# Altium integrated library Linear Technology Power Management Battery Management.IntLib: 626 symbols (part 33 of 56)
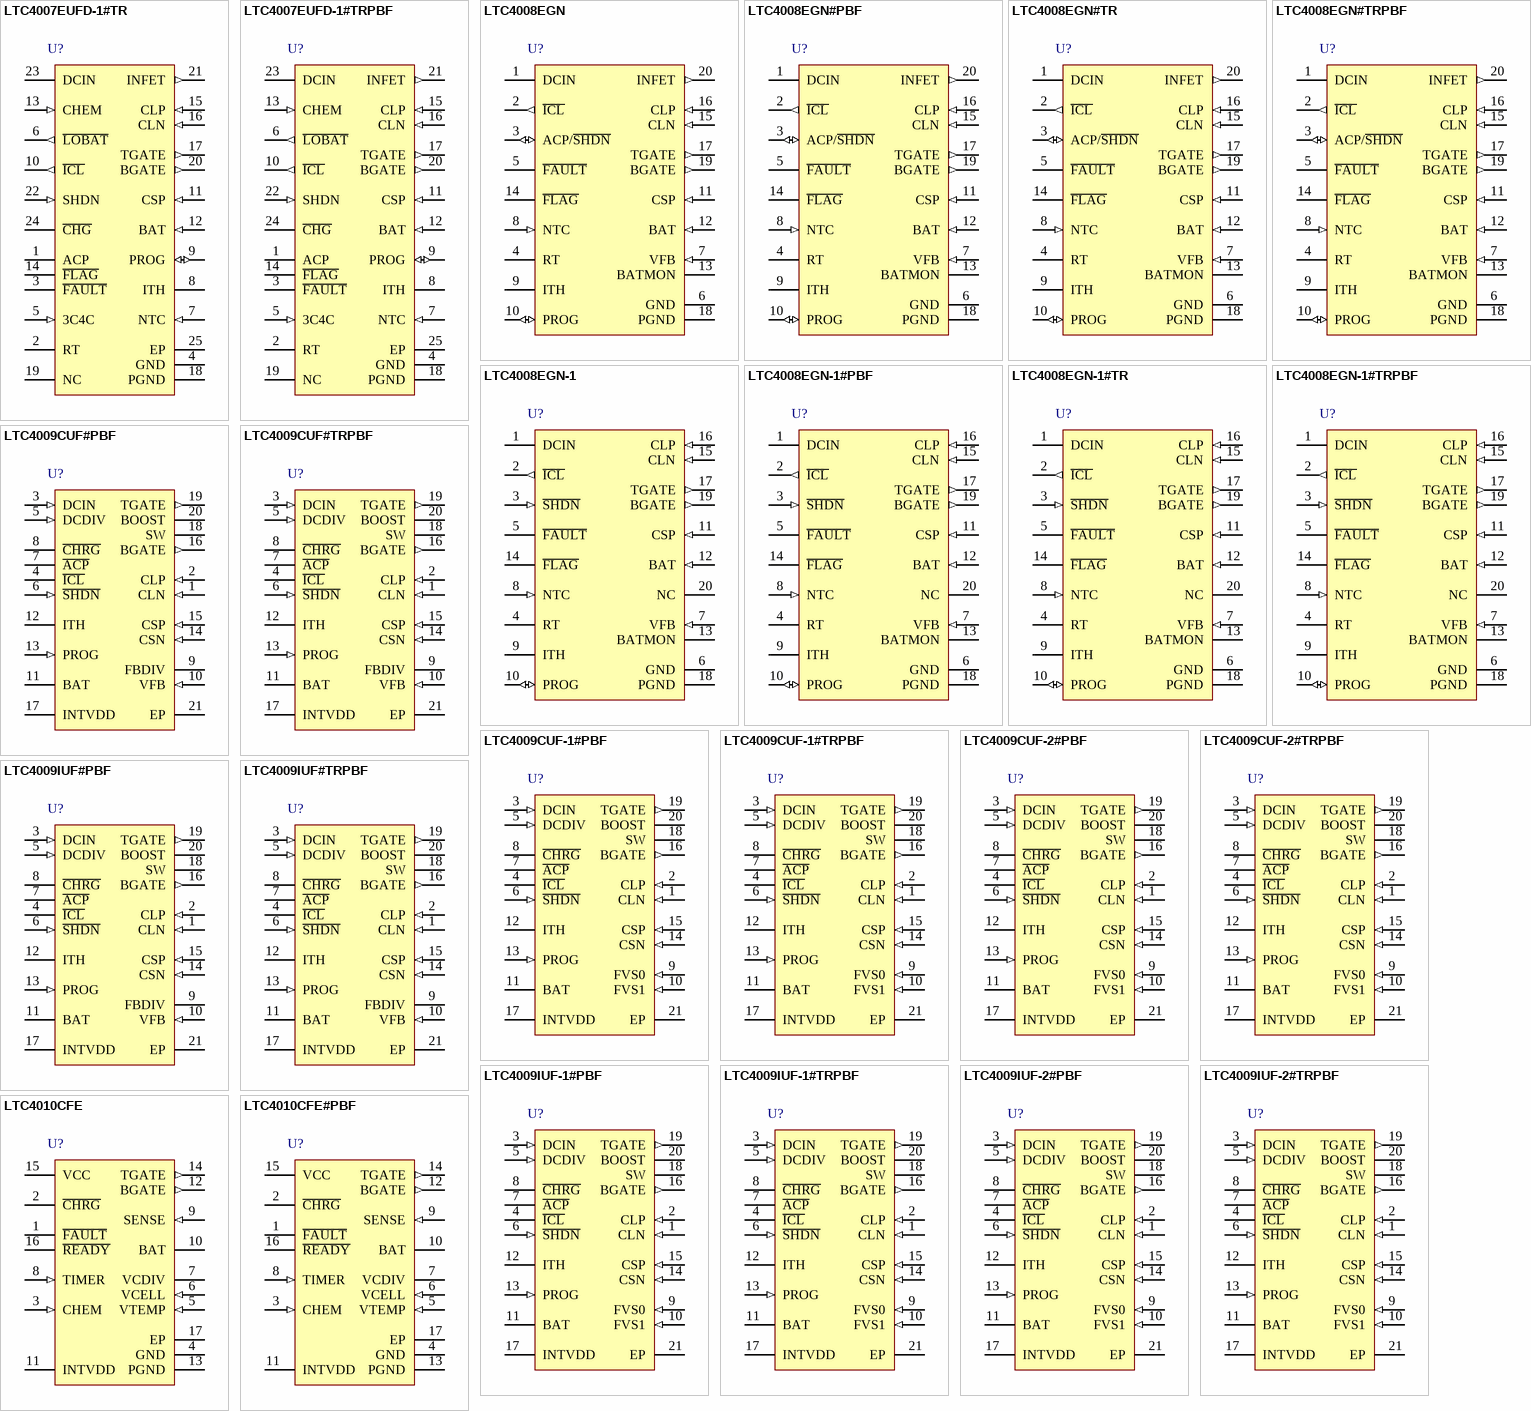
[diagram p54: symbols LTC4007EUFD-1#TR to LTC4010CFE#PBF]

## LTC4008EGN-1#TRPBF
designator U?
4 A, High Efficiency, Multi-Chemistry Battery Charger, 6 to 28 V Vin, 20-pin SOP (GN-20), -40 to 125 degC, Pb-Free, Tape and Reel; Manufacturer: Linear Technology; PartNumber: LTC4008EGN-1#TRPBF; Battery Chemistry: Li-Ion, Li-Polymer, NiCd, NiMH, LiFePO4, Lead Acid; Charge Termination: Microcontroller; Float Voltage: Adj; Max Charge Current(A): 4; Number of Cells: 1 to 6 (Li), 4 to 18 (Ni); Type of Charger: Switching; Vin Max(V): 28; Vin Min(V): 6; DatasheetVersion: Rev. B; PackageVersion: Rev. B, 03/2012; PackageReference: GN-20; PackageDescription: 20-Pin Plastic SSOP, Body 8.649 x 3.899 mm, Pitch 0.635 mm; Supplier 1: Digi-Key; Supplier Part Number 1: LTC4008EGN-1#TRPBF-ND; Packing: Tape and Reel; RoHS: TRUE; Mounting Technology: Surface Mount; ComponentLink1Description: Manufacturer URL; ComponentLink1URL: http://www.linear.com/; ComponentLink2Description: Datasheet; ComponentLink2URL: http://cds.linear.com/docs/en/datasheet/4008fb.pdf; ComponentLink3Description: Package Specification; ComponentLink3URL: http://cds.linear.com/docs/en/packaging/05081641_B_GN20.pdf
footprint LT-GN-20_N (SOP, 20-Leads, Body 8.7x4mm, Pitch 0.635mm, IPC Medium Density)
footprint LT-GN-20_L (SOP, 20-Leads, Body 8.7x4mm, Pitch 0.635mm, IPC High Density)
footprint LT-GN-20_M (SOP, 20-Leads, Body 8.7x4mm, Pitch 0.635mm, IPC Low Density)
pins: 1 DCIN (power) "External DC Power Source Input. Bypass this pin with at least 0.01uF. See Applications Information section.", 2 ~{ICL} (out) "Input Current Limit Indicator. Active low digital output. Internal 10uA pull-up to 3.5V. Pulled low if the charger current is being reduced by the input current limiting function. The pin is capable of sinking at least 100uA.(See Datasheet)", 3 ~{SHDN} (in) "The charger can also be shutdown by pulling this pin below 1V. The pin is capable of sinking at least 100uA. If VLOGIC > 3.3V, add  an external pull-up.", 4 RT "Thermistor Clocking Resistor. Use a 150k resistor as a nominal value. This resistor is always required. If this resistor is not present, the charger will not start.", 5 ~{FAULT} (oc) "Active low open-drain output that indicates that charger operation has suspended due to the thermistor exceeding allowed values. A pull-up resistor is required if this function is used. The pin is capable of sinking at least (See Datasheet)", 6 GND (power) "Ground for Low Power Circuitry.", 7 VFB (in) "Input of Voltage Feedback Error Amplifier, EA, in the Block Diagram.", 8 NTC (in) "A thermistor network is connected from NTC to GND. This pin determines if the battery temperature is safe for charging. The charger and timer are suspended and the F\A\U\L\T\ pin is driven low if the thermistor indicates a (See Datasheet)", 9 ITH "Control Signal of the Inner Loop of the Current Mode PWM. Higher ITH voltage corresponds to higher charging current in normal operation. A 6k resistor in series with a capacitor of at least 0.1uF to GND provides loop (See Datasheet)", 10 PROG (io) "Current Programming/Monitoring Input/ Output. An external resistor to GND programs the peak charging current in conjunction with the current sensing resistor. The voltage at this pin provides a linear indication of charging (See Datasheet)", 11 CSP (in) "Current Ampli?er CA1 Input. The CSP and BAT pins measure the voltage across the sense resistor, RSENSE, to provide the instantaneous current signals required for both peak and average current mode operation.", 12 BAT (in) "Battery Sense Input and the Negative Reference for the Current Sense Resistor.", 13 BATMON (power) "Output Voltage Representing Battery Voltage. Switched off to reduce standby current drain when AC is not present. An external voltage divider from BATMON to VFB sets the charger ?oat voltage. Recommended minimum loa(See Datasheet)", 14 ~{FLAG} (oc) "Active low open-drain output that indicates when charging current has declined to 10% of max programmed current. A pull-up resistor is required if this function is used. The pin is capable of sinking at least 100uA. This (See Datasheet)", 15 CLN (in) "Negative Input to the Input Current Limiting  Amplifier CL1. The threshold is set at 100mV below the voltage at the CLP pin. When used to limit input current,  a filter is needed to ?lter out the switching noise. (See Datasheet)", 16 CLP (in) "This pin serves as a positive reference for the input current limit amplifier, CL1. It also serves as the power supply for the IC.", 17 TGATE (out) "Drives the top external PMOSFET of the battery charger buck converter.", 18 PGND (power) "High Current Ground Return for BGATE Driver.", 19 BGATE (out) "Drives the bottom external N-MOSFET of the battery charger buck converter.", 20 NC "No Connection"

## LTC4009CUF#PBF
designator U?
High Efficiency, Multi-Chemistry Battery Charger, 6 to 28 V Vin, 20-pin QFN (UF-20), 0 to 85 degC, Pb-Free; Manufacturer: Linear Technology; PartNumber: LTC4009CUF#PBF; Battery Chemistry: Li-Ion, Li-Polymer, NiCd, NiMH, LiFePO4, Lead Acid; Charge Termination: Microcontroller; Float Voltage: Adj; Max Charge Current(A): 8; Number of Cells: 1 to 6 (Li), 2 to 18 (Ni); Type of Charger: Switching; Vin Max(V): 28; Vin Min(V): 6; DatasheetVersion: Rev. D; PackageVersion: Rev. A, 10/2010; PackageReference: UF20; PackageDescription: 20-Pin Plastic QFN, Body 4 x 4 mm, Pitch 0.5 mm; Supplier 1: Digi-Key; Supplier Part Number 1: LTC4009CUF#PBF-ND; Supplier 2: Farnell; Supplier Part Number 2: 1647755; Supplier 3: Newark; Supplier Part Number 3: 15N5429; RoHS: TRUE; Mounting Technology: Surface Mount; Code_JEDEC: MO-220; ComponentLink1Description: Manufacturer URL; ComponentLink1URL: http://www.linear.com/; ComponentLink2Description: Datasheet; ComponentLink2URL: http://cds.linear.com/docs/en/datasheet/4009fd.pdf; ComponentLink3Description: Package Specification; ComponentLink3URL: http://cds.linear.com/docs/en/packaging/QFN_20_05-08-1710.pdf
footprint LT-UF-20_N (QFN, 20-Leads, Body 4.1x4.1mm, Pitch 0.5mm, Thermal Pad 2.45x2.45mm, IPC Medium Density)
footprint LT-UF-20_L (QFN, 20-Leads, Body 4.1x4.1mm, Pitch 0.5mm, Thermal Pad 2.45x2.45mm, IPC High Density)
footprint LT-UF-20_M (QFN, 20-Leads, Body 4.1x4.1mm, Pitch 0.5mm, Thermal Pad 2.45x2.45mm, IPC Low Density)
pins: 1 CLN (in) "Adapter Input Current Limit Negative Input. The LTC4009 senses voltage on this pin to determine if the charge current should be reduced to limit total input current. The threshold is set 100mV below the CLP pin. An external (See Datasheet)", 2 CLP (in) "Adapter Input Current Limit Positive Input. The LTC4009 also draws power from this pin, including a small amount for some shutdown functions. Operating voltage range is GND to 28V.", 3 DCIN (in) "DC Power Input. The LTC4009 draws power from this pin when an external DC power source is present. This pin is typically isolated from the CLP pin by a diode and should be bypassed with a capacitance of 0.1uF or more. (See Datasheet)", 4 ~{ICL} (oc) "Active-Low Input Current Limit Indicator Output. This open-drain output pulls to GND when the charge current is reduced because of AC adapter input current limiting. This output should be left floating if not used.", 5 DCDIV (in) "AC Adapter Present Comparator Input. The LTC4009 senses voltage on this pin to determine when an adequate DC power source is present, or if an overvoltage condition exists. An external resistor divider programs these (See Datasheet)", 6 ~{SHDN} (in) "Active-low Shutdown Input. Driving S\H\D\N\ below 300mV unconditionally forces the LTC4009 into the shutdown state. This input has a 50kohm internal pull-down to GND. Operating voltage range is GND to INTVDD.", 7 ~{ACP} (oc) "Active-Low AC Adapter Present Indicator Output. This open-drain output pulls to GND when adequate AC adapter (DC) voltage is present, based on the DCDIV input. This output should be left floating if not used.", 8 ~{CHRG} (hiz) "Active-Low Charge Indicator Output. This open-drain output provides three levels of information about charge status using a strong pull-down, 25uA weak pull-down or high impedance. Refer to the Operation and Applications (See Datasheet)", 9 FBDIV (oc) "Battery Voltage Feedback Resistor Divider Source. The LTC4009 connects this pin to BAT when charging is in progress. FBDIV is an open-drain PFET output to BAT with an operating voltage range of GND to BAT.", 10 VFB (in) "Battery Voltage Feedback Input. An external resistor divider between FBDIV and GND with the center tap connected to VFB programs the charger output voltage. In constant voltage mode, this pin is nominally at 1.2085V. Refer (See Datasheet)", 11 BAT (power) "Battery Pack Connection. The LTC4009 uses the voltage on this pin to control PWM operation when charging. Operating voltage range is GND to CLN.", 12 ITH "PWM Control Voltage and Compensation Node. The LTC4009 develops a voltage on this pin to control cycle-by-cycle peak inductor current. An external R-C network connected to ITH provides PWM loop compensation. Refer to the (See Datasheet)", 13 PROG (in) "Charge Current Programming and Monitoring Pin. An external resistance connected between PROG and GND, along with the current sense and PWM input resistors, programs the maximum charge current. The voltage on this pin can (See Datasheet)", 14 CSN (in) "Charge Current Sense Negative Input. Place an external input resistor (RIN, Figure 1) between this pin and the negative side of the charge current sense resistor. Operating voltage ranges from (BAT - 50mV) to (BAT + 200mV).", 15 CSP (in) "Charge Current Sense Positive Input. Place an external input resistor (RIN, Figure 1) between this pin and the positive side of the charge current sense resistor. Operating voltage ranges from (BAT - 50mV) to (BAT + 200mV).", 16 BGATE (out) "External Synchronous NFET Gate Control Output. This output provides gate drive to an external NMOS power transistor switch used for synchronous rectification to increase efficiency in the step-down DC/DC converter. Operating (See Datasheet)", 17 INTVDD (power) "Internal 5V Regulator Output. This pin provides a means of bypassing the internal 5V regulator used to power the LTC4009 PWM FET drivers. This supply shuts down when the LTC4009 shuts down. Refer to the Application (See Datasheet)", 18 SW "PWM Switch Node. The LTC4009 uses the voltage on this pin as the source reference for its topside NFET (PWM switch) driver. Refer to the Applications Information section for additional PCB layout suggestions related to this (See Datasheet)", 19 TGATE (out) "External NFET Switch Gate Control Output. This output provides gate drive to an external NMOS power transistor switch used in the DC/DC converter. Operating voltage range is GND to (CLN + 5V).", 20 BOOST "TGATE Driver Supply Input. A bootstrap capacitor is returned to this pin from a charge network connected to SW and INTVDD. Refer to the Applications Information section for complete details on circuit topology and component (See Datasheet)", 21 EP (power) "Ground. The package paddle provides a single-point ground for the internal voltage reference and other critical LTC4009 circuits. It must be soldered to a suitable PCB copper ground pad for proper electrical operation and to (See Datasheet)"

## LTC4009CUF#TRPBF
designator U?
High Efficiency, Multi-Chemistry Battery Charger, 6 to 28 V Vin, 20-pin QFN (UF-20), 0 to 85 degC, Pb-Free, Tape and Reel; Manufacturer: Linear Technology; PartNumber: LTC4009CUF#TRPBF; Battery Chemistry: Li-Ion, Li-Polymer, NiCd, NiMH, LiFePO4, Lead Acid; Charge Termination: Microcontroller; Float Voltage: Adj; Max Charge Current(A): 8; Number of Cells: 1 to 6 (Li), 2 to 18 (Ni); Type of Charger: Switching; Vin Max(V): 28; Vin Min(V): 6; DatasheetVersion: Rev. D; PackageVersion: Rev. A, 10/2010; PackageReference: UF20; PackageDescription: 20-Pin Plastic QFN, Body 4 x 4 mm, Pitch 0.5 mm; Supplier 1: Digi-Key; Supplier Part Number 1: LTC4009CUF#TRPBF-ND; Packing: Tape and Reel; RoHS: TRUE; Mounting Technology: Surface Mount; Code_JEDEC: MO-220; ComponentLink1Description: Manufacturer URL; ComponentLink1URL: http://www.linear.com/; ComponentLink2Description: Datasheet; ComponentLink2URL: http://cds.linear.com/docs/en/datasheet/4009fd.pdf; ComponentLink3Description: Package Specification; ComponentLink3URL: http://cds.linear.com/docs/en/packaging/QFN_20_05-08-1710.pdf
footprint LT-UF-20_N (QFN, 20-Leads, Body 4.1x4.1mm, Pitch 0.5mm, Thermal Pad 2.45x2.45mm, IPC Medium Density)
footprint LT-UF-20_L (QFN, 20-Leads, Body 4.1x4.1mm, Pitch 0.5mm, Thermal Pad 2.45x2.45mm, IPC High Density)
footprint LT-UF-20_M (QFN, 20-Leads, Body 4.1x4.1mm, Pitch 0.5mm, Thermal Pad 2.45x2.45mm, IPC Low Density)
pins: 1 CLN (in) "Adapter Input Current Limit Negative Input. The LTC4009 senses voltage on this pin to determine if the charge current should be reduced to limit total input current. The threshold is set 100mV below the CLP pin. An external (See Datasheet)", 2 CLP (in) "Adapter Input Current Limit Positive Input. The LTC4009 also draws power from this pin, including a small amount for some shutdown functions. Operating voltage range is GND to 28V.", 3 DCIN (in) "DC Power Input. The LTC4009 draws power from this pin when an external DC power source is present. This pin is typically isolated from the CLP pin by a diode and should be bypassed with a capacitance of 0.1uF or more. (See Datasheet)", 4 ~{ICL} (oc) "Active-Low Input Current Limit Indicator Output. This open-drain output pulls to GND when the charge current is reduced because of AC adapter input current limiting. This output should be left floating if not used.", 5 DCDIV (in) "AC Adapter Present Comparator Input. The LTC4009 senses voltage on this pin to determine when an adequate DC power source is present, or if an overvoltage condition exists. An external resistor divider programs these (See Datasheet)", 6 ~{SHDN} (in) "Active-low Shutdown Input. Driving S\H\D\N\ below 300mV unconditionally forces the LTC4009 into the shutdown state. This input has a 50kohm internal pull-down to GND. Operating voltage range is GND to INTVDD.", 7 ~{ACP} (oc) "Active-Low AC Adapter Present Indicator Output. This open-drain output pulls to GND when adequate AC adapter (DC) voltage is present, based on the DCDIV input. This output should be left floating if not used.", 8 ~{CHRG} (hiz) "Active-Low Charge Indicator Output. This open-drain output provides three levels of information about charge status using a strong pull-down, 25uA weak pull-down or high impedance. Refer to the Operation and Applications (See Datasheet)", 9 FBDIV (oc) "Battery Voltage Feedback Resistor Divider Source. The LTC4009 connects this pin to BAT when charging is in progress. FBDIV is an open-drain PFET output to BAT with an operating voltage range of GND to BAT.", 10 VFB (in) "Battery Voltage Feedback Input. An external resistor divider between FBDIV and GND with the center tap connected to VFB programs the charger output voltage. In constant voltage mode, this pin is nominally at 1.2085V. Refer (See Datasheet)", 11 BAT (power) "Battery Pack Connection. The LTC4009 uses the voltage on this pin to control PWM operation when charging. Operating voltage range is GND to CLN.", 12 ITH "PWM Control Voltage and Compensation Node. The LTC4009 develops a voltage on this pin to control cycle-by-cycle peak inductor current. An external R-C network connected to ITH provides PWM loop compensation. Refer to the (See Datasheet)", 13 PROG (in) "Charge Current Programming and Monitoring Pin. An external resistance connected between PROG and GND, along with the current sense and PWM input resistors, programs the maximum charge current. The voltage on this pin can (See Datasheet)", 14 CSN (in) "Charge Current Sense Negative Input. Place an external input resistor (RIN, Figure 1) between this pin and the negative side of the charge current sense resistor. Operating voltage ranges from (BAT - 50mV) to (BAT + 200mV).", 15 CSP (in) "Charge Current Sense Positive Input. Place an external input resistor (RIN, Figure 1) between this pin and the positive side of the charge current sense resistor. Operating voltage ranges from (BAT - 50mV) to (BAT + 200mV).", 16 BGATE (out) "External Synchronous NFET Gate Control Output. This output provides gate drive to an external NMOS power transistor switch used for synchronous rectification to increase efficiency in the step-down DC/DC converter. Operating (See Datasheet)", 17 INTVDD (power) "Internal 5V Regulator Output. This pin provides a means of bypassing the internal 5V regulator used to power the LTC4009 PWM FET drivers. This supply shuts down when the LTC4009 shuts down. Refer to the Application (See Datasheet)", 18 SW "PWM Switch Node. The LTC4009 uses the voltage on this pin as the source reference for its topside NFET (PWM switch) driver. Refer to the Applications Information section for additional PCB layout suggestions related to this (See Datasheet)", 19 TGATE (out) "External NFET Switch Gate Control Output. This output provides gate drive to an external NMOS power transistor switch used in the DC/DC converter. Operating voltage range is GND to (CLN + 5V).", 20 BOOST "TGATE Driver Supply Input. A bootstrap capacitor is returned to this pin from a charge network connected to SW and INTVDD. Refer to the Applications Information section for complete details on circuit topology and component (See Datasheet)", 21 EP (power) "Ground. The package paddle provides a single-point ground for the internal voltage reference and other critical LTC4009 circuits. It must be soldered to a suitable PCB copper ground pad for proper electrical operation and to (See Datasheet)"

## LTC4009CUF-1#PBF
designator U?
High Efficiency, Multi-Chemistry Battery Charger, 6 to 28 V Vin, 20-pin QFN (UF-20), 0 to 85 degC, Pb-Free; Manufacturer: Linear Technology; PartNumber: LTC4009CUF-1#PBF; Battery Chemistry: Li-Ion, Li-Polymer; Charge Termination: Microcontroller; Float Voltage: 4.1 V; Max Charge Current(A): 8; Number of Cells: 1 to 4 (Li); Type of Charger: Switching; Vin Max(V): 28; Vin Min(V): 6; DatasheetVersion: Rev. D; PackageVersion: Rev. A, 10/2010; PackageReference: UF20; PackageDescription: 20-Pin Plastic QFN, Body 4 x 4 mm, Pitch 0.5 mm; Supplier 1: Digi-Key; Supplier Part Number 1: LTC4009CUF-1#PBF-ND; Supplier 2: Newark; Supplier Part Number 2: 19P0710; RoHS: TRUE; Mounting Technology: Surface Mount; Code_JEDEC: MO-220; ComponentLink1Description: Manufacturer URL; ComponentLink1URL: http://www.linear.com/; ComponentLink2Description: Datasheet; ComponentLink2URL: http://cds.linear.com/docs/en/datasheet/4009fd.pdf; ComponentLink3Description: Package Specification; ComponentLink3URL: http://cds.linear.com/docs/en/packaging/QFN_20_05-08-1710.pdf
footprint LT-UF-20_N (QFN, 20-Leads, Body 4.1x4.1mm, Pitch 0.5mm, Thermal Pad 2.45x2.45mm, IPC Medium Density)
footprint LT-UF-20_L (QFN, 20-Leads, Body 4.1x4.1mm, Pitch 0.5mm, Thermal Pad 2.45x2.45mm, IPC High Density)
footprint LT-UF-20_M (QFN, 20-Leads, Body 4.1x4.1mm, Pitch 0.5mm, Thermal Pad 2.45x2.45mm, IPC Low Density)
pins: 1 CLN (in) "Adapter Input Current Limit Negative Input. The LTC4009 senses voltage on this pin to determine if the charge current should be reduced to limit total input current. The threshold is set 100mV below the CLP pin. An external (See Datasheet)", 2 CLP (in) "Adapter Input Current Limit Positive Input. The LTC4009 also draws power from this pin, including a small amount for some shutdown functions. Operating voltage range is GND to 28V.", 3 DCIN (in) "DC Power Input. The LTC4009 draws power from this pin when an external DC power source is present. This pin is typically isolated from the CLP pin by a diode and should be bypassed with a capacitance of 0.1uF or more. (See Datasheet)", 4 ~{ICL} (oc) "Active-Low Input Current Limit Indicator Output. This open-drain output pulls to GND when the charge current is reduced because of AC adapter input current limiting. This output should be left floating if not used.", 5 DCDIV (in) "AC Adapter Present Comparator Input. The LTC4009 senses voltage on this pin to determine when an adequate DC power source is present, or if an overvoltage condition exists. An external resistor divider programs these (See Datasheet)", 6 ~{SHDN} (in) "Active-low Shutdown Input. Driving S\H\D\N\ below 300mV unconditionally forces the LTC4009 into the shutdown state. This input has a 50kohm internal pull-down to GND. Operating voltage range is GND to INTVDD.", 7 ~{ACP} (oc) "Active-Low AC Adapter Present Indicator Output. This open-drain output pulls to GND when adequate AC adapter (DC) voltage is present, based on the DCDIV input. This output should be left floating if not used.", 8 ~{CHRG} (hiz) "Active-Low Charge Indicator Output. This open-drain output provides three levels of information about charge status using a strong pull-down, 25uA weak pull-down or high impedance. Refer to the Operation and Applications (See Datasheet)", 9 FVS0 (in) "Battery Voltage Select Input (LSB). This pin is one of two pins used on the LTC4009-1 or LTC4009-2 to select one of four preset battery voltages. Selection is done by connecting to either GND or INTVDD. Operating voltage (See Datasheet)", 10 FVS1 (in) "Battery Voltage Select Input (MSB). This pin is one of two pins used on the LTC4009-1 or LTC4009-2 to select one of four preset battery voltages. Selection is done by connecting to either GND or INTVDD. Operating voltage (See Datasheet)", 11 BAT (power) "Battery Pack Connection. The LTC4009 uses the voltage on this pin to control PWM operation when charging. Operating voltage range is GND to CLN.", 12 ITH "PWM Control Voltage and Compensation Node. The LTC4009 develops a voltage on this pin to control cycle-by-cycle peak inductor current. An external R-C network connected to ITH provides PWM loop compensation. Refer to the (See Datasheet)", 13 PROG (in) "Charge Current Programming and Monitoring Pin. An external resistance connected between PROG and GND, along with the current sense and PWM input resistors, programs the maximum charge current. The voltage on this pin can (See Datasheet)", 14 CSN (in) "Charge Current Sense Negative Input. Place an external input resistor (RIN, Figure 1) between this pin and the negative side of the charge current sense resistor. Operating voltage ranges from (BAT - 50mV) to (BAT + 200mV).", 15 CSP (in) "Charge Current Sense Positive Input. Place an external input resistor (RIN, Figure 1) between this pin and the positive side of the charge current sense resistor. Operating voltage ranges from (BAT - 50mV) to (BAT + 200mV).", 16 BGATE (out) "External Synchronous NFET Gate Control Output. This output provides gate drive to an external NMOS power transistor switch used for synchronous rectification to increase efficiency in the step-down DC/DC converter. Operating (See Datasheet)", 17 INTVDD (power) "Internal 5V Regulator Output. This pin provides a means of bypassing the internal 5V regulator used to power the LTC4009 PWM FET drivers. This supply shuts down when the LTC4009 shuts down. Refer to the Application (See Datasheet)", 18 SW "PWM Switch Node. The LTC4009 uses the voltage on this pin as the source reference for its topside NFET (PWM switch) driver. Refer to the Applications Information section for additional PCB layout suggestions related to this (See Datasheet)", 19 TGATE (out) "External NFET Switch Gate Control Output. This output provides gate drive to an external NMOS power transistor switch used in the DC/DC converter. Operating voltage range is GND to (CLN + 5V).", 20 BOOST "TGATE Driver Supply Input. A bootstrap capacitor is returned to this pin from a charge network connected to SW and INTVDD. Refer to the Applications Information section for complete details on circuit topology and component (See Datasheet)", 21 EP (power) "Ground. The package paddle provides a single-point ground for the internal voltage reference and other critical LTC4009 circuits. It must be soldered to a suitable PCB copper ground pad for proper electrical operation and to (See Datasheet)"

## LTC4009CUF-1#TRPBF
designator U?
High Efficiency, Multi-Chemistry Battery Charger, 6 to 28 V Vin, 20-pin QFN (UF-20), 0 to 85 degC, Pb-Free, Tape and Reel; Manufacturer: Linear Technology; PartNumber: LTC4009CUF-1#TRPBF; Battery Chemistry: Li-Ion, Li-Polymer; Charge Termination: Microcontroller; Float Voltage: 4.1 V; Max Charge Current(A): 8; Number of Cells: 1 to 4 (Li); Type of Charger: Switching; Vin Max(V): 28; Vin Min(V): 6; DatasheetVersion: Rev. D; PackageVersion: Rev. A, 10/2010; PackageReference: UF20; PackageDescription: 20-Pin Plastic QFN, Body 4 x 4 mm, Pitch 0.5 mm; Supplier 1: Digi-Key; Supplier Part Number 1: LTC4009CUF-1#TRPBF-ND; Packing: Tape and Reel; RoHS: TRUE; Mounting Technology: Surface Mount; Code_JEDEC: MO-220; ComponentLink1Description: Manufacturer URL; ComponentLink1URL: http://www.linear.com/; ComponentLink2Description: Datasheet; ComponentLink2URL: http://cds.linear.com/docs/en/datasheet/4009fd.pdf; ComponentLink3Description: Package Specification; ComponentLink3URL: http://cds.linear.com/docs/en/packaging/QFN_20_05-08-1710.pdf
footprint LT-UF-20_N (QFN, 20-Leads, Body 4.1x4.1mm, Pitch 0.5mm, Thermal Pad 2.45x2.45mm, IPC Medium Density)
footprint LT-UF-20_L (QFN, 20-Leads, Body 4.1x4.1mm, Pitch 0.5mm, Thermal Pad 2.45x2.45mm, IPC High Density)
footprint LT-UF-20_M (QFN, 20-Leads, Body 4.1x4.1mm, Pitch 0.5mm, Thermal Pad 2.45x2.45mm, IPC Low Density)
pins: 1 CLN (in) "Adapter Input Current Limit Negative Input. The LTC4009 senses voltage on this pin to determine if the charge current should be reduced to limit total input current. The threshold is set 100mV below the CLP pin. An external (See Datasheet)", 2 CLP (in) "Adapter Input Current Limit Positive Input. The LTC4009 also draws power from this pin, including a small amount for some shutdown functions. Operating voltage range is GND to 28V.", 3 DCIN (in) "DC Power Input. The LTC4009 draws power from this pin when an external DC power source is present. This pin is typically isolated from the CLP pin by a diode and should be bypassed with a capacitance of 0.1uF or more. (See Datasheet)", 4 ~{ICL} (oc) "Active-Low Input Current Limit Indicator Output. This open-drain output pulls to GND when the charge current is reduced because of AC adapter input current limiting. This output should be left floating if not used.", 5 DCDIV (in) "AC Adapter Present Comparator Input. The LTC4009 senses voltage on this pin to determine when an adequate DC power source is present, or if an overvoltage condition exists. An external resistor divider programs these (See Datasheet)", 6 ~{SHDN} (in) "Active-low Shutdown Input. Driving S\H\D\N\ below 300mV unconditionally forces the LTC4009 into the shutdown state. This input has a 50kohm internal pull-down to GND. Operating voltage range is GND to INTVDD.", 7 ~{ACP} (oc) "Active-Low AC Adapter Present Indicator Output. This open-drain output pulls to GND when adequate AC adapter (DC) voltage is present, based on the DCDIV input. This output should be left floating if not used.", 8 ~{CHRG} (hiz) "Active-Low Charge Indicator Output. This open-drain output provides three levels of information about charge status using a strong pull-down, 25uA weak pull-down or high impedance. Refer to the Operation and Applications (See Datasheet)", 9 FVS0 (in) "Battery Voltage Select Input (LSB). This pin is one of two pins used on the LTC4009-1 or LTC4009-2 to select one of four preset battery voltages. Selection is done by connecting to either GND or INTVDD. Operating voltage (See Datasheet)", 10 FVS1 (in) "Battery Voltage Select Input (MSB). This pin is one of two pins used on the LTC4009-1 or LTC4009-2 to select one of four preset battery voltages. Selection is done by connecting to either GND or INTVDD. Operating voltage (See Datasheet)", 11 BAT (power) "Battery Pack Connection. The LTC4009 uses the voltage on this pin to control PWM operation when charging. Operating voltage range is GND to CLN.", 12 ITH "PWM Control Voltage and Compensation Node. The LTC4009 develops a voltage on this pin to control cycle-by-cycle peak inductor current. An external R-C network connected to ITH provides PWM loop compensation. Refer to the (See Datasheet)", 13 PROG (in) "Charge Current Programming and Monitoring Pin. An external resistance connected between PROG and GND, along with the current sense and PWM input resistors, programs the maximum charge current. The voltage on this pin can (See Datasheet)", 14 CSN (in) "Charge Current Sense Negative Input. Place an external input resistor (RIN, Figure 1) between this pin and the negative side of the charge current sense resistor. Operating voltage ranges from (BAT - 50mV) to (BAT + 200mV).", 15 CSP (in) "Charge Current Sense Positive Input. Place an external input resistor (RIN, Figure 1) between this pin and the positive side of the charge current sense resistor. Operating voltage ranges from (BAT - 50mV) to (BAT + 200mV).", 16 BGATE (out) "External Synchronous NFET Gate Control Output. This output provides gate drive to an external NMOS power transistor switch used for synchronous rectification to increase efficiency in the step-down DC/DC converter. Operating (See Datasheet)", 17 INTVDD (power) "Internal 5V Regulator Output. This pin provides a means of bypassing the internal 5V regulator used to power the LTC4009 PWM FET drivers. This supply shuts down when the LTC4009 shuts down. Refer to the Application (See Datasheet)", 18 SW "PWM Switch Node. The LTC4009 uses the voltage on this pin as the source reference for its topside NFET (PWM switch) driver. Refer to the Applications Information section for additional PCB layout suggestions related to this (See Datasheet)", 19 TGATE (out) "External NFET Switch Gate Control Output. This output provides gate drive to an external NMOS power transistor switch used in the DC/DC converter. Operating voltage range is GND to (CLN + 5V).", 20 BOOST "TGATE Driver Supply Input. A bootstrap capacitor is returned to this pin from a charge network connected to SW and INTVDD. Refer to the Applications Information section for complete details on circuit topology and component (See Datasheet)", 21 EP (power) "Ground. The package paddle provides a single-point ground for the internal voltage reference and other critical LTC4009 circuits. It must be soldered to a suitable PCB copper ground pad for proper electrical operation and to (See Datasheet)"

## LTC4009CUF-2#PBF
designator U?
High Efficiency, Multi-Chemistry Battery Charger, 6 to 28 V Vin, 20-pin QFN (UF-20), 0 to 85 degC, Pb-Free; Manufacturer: Linear Technology; PartNumber: LTC4009CUF-2#PBF; Battery Chemistry: Li-Ion, Li-Polymer; Charge Termination: Microcontroller; Float Voltage: 4.2 V; Max Charge Current(A): 8; Number of Cells: 1 to 4 (Li); Type of Charger: Switching; Vin Max(V): 28; Vin Min(V): 6; DatasheetVersion: Rev. D; PackageVersion: Rev. A, 10/2010; PackageReference: UF20; PackageDescription: 20-Pin Plastic QFN, Body 4 x 4 mm, Pitch 0.5 mm; Supplier 1: Digi-Key; Supplier Part Number 1: LTC4009CUF-2#PBF-ND; Supplier 2: Newark; Supplier Part Number 2: 19P0711; RoHS: TRUE; Mounting Technology: Surface Mount; Code_JEDEC: MO-220; ComponentLink1Description: Manufacturer URL; ComponentLink1URL: http://www.linear.com/; ComponentLink2Description: Datasheet; ComponentLink2URL: http://cds.linear.com/docs/en/datasheet/4009fd.pdf; ComponentLink3Description: Package Specification; ComponentLink3URL: http://cds.linear.com/docs/en/packaging/QFN_20_05-08-1710.pdf
footprint LT-UF-20_N (QFN, 20-Leads, Body 4.1x4.1mm, Pitch 0.5mm, Thermal Pad 2.45x2.45mm, IPC Medium Density)
footprint LT-UF-20_L (QFN, 20-Leads, Body 4.1x4.1mm, Pitch 0.5mm, Thermal Pad 2.45x2.45mm, IPC High Density)
footprint LT-UF-20_M (QFN, 20-Leads, Body 4.1x4.1mm, Pitch 0.5mm, Thermal Pad 2.45x2.45mm, IPC Low Density)
pins: 1 CLN (in) "Adapter Input Current Limit Negative Input. The LTC4009 senses voltage on this pin to determine if the charge current should be reduced to limit total input current. The threshold is set 100mV below the CLP pin. An external (See Datasheet)", 2 CLP (in) "Adapter Input Current Limit Positive Input. The LTC4009 also draws power from this pin, including a small amount for some shutdown functions. Operating voltage range is GND to 28V.", 3 DCIN (in) "DC Power Input. The LTC4009 draws power from this pin when an external DC power source is present. This pin is typically isolated from the CLP pin by a diode and should be bypassed with a capacitance of 0.1uF or more. (See Datasheet)", 4 ~{ICL} (oc) "Active-Low Input Current Limit Indicator Output. This open-drain output pulls to GND when the charge current is reduced because of AC adapter input current limiting. This output should be left floating if not used.", 5 DCDIV (in) "AC Adapter Present Comparator Input. The LTC4009 senses voltage on this pin to determine when an adequate DC power source is present, or if an overvoltage condition exists. An external resistor divider programs these (See Datasheet)", 6 ~{SHDN} (in) "Active-low Shutdown Input. Driving S\H\D\N\ below 300mV unconditionally forces the LTC4009 into the shutdown state. This input has a 50kohm internal pull-down to GND. Operating voltage range is GND to INTVDD.", 7 ~{ACP} (oc) "Active-Low AC Adapter Present Indicator Output. This open-drain output pulls to GND when adequate AC adapter (DC) voltage is present, based on the DCDIV input. This output should be left floating if not used.", 8 ~{CHRG} (hiz) "Active-Low Charge Indicator Output. This open-drain output provides three levels of information about charge status using a strong pull-down, 25uA weak pull-down or high impedance. Refer to the Operation and Applications (See Datasheet)", 9 FVS0 (in) "Battery Voltage Select Input (LSB). This pin is one of two pins used on the LTC4009-1 or LTC4009-2 to select one of four preset battery voltages. Selection is done by connecting to either GND or INTVDD. Operating voltage (See Datasheet)", 10 FVS1 (in) "Battery Voltage Select Input (MSB). This pin is one of two pins used on the LTC4009-1 or LTC4009-2 to select one of four preset battery voltages. Selection is done by connecting to either GND or INTVDD. Operating voltage (See Datasheet)", 11 BAT (power) "Battery Pack Connection. The LTC4009 uses the voltage on this pin to control PWM operation when charging. Operating voltage range is GND to CLN.", 12 ITH "PWM Control Voltage and Compensation Node. The LTC4009 develops a voltage on this pin to control cycle-by-cycle peak inductor current. An external R-C network connected to ITH provides PWM loop compensation. Refer to the (See Datasheet)", 13 PROG (in) "Charge Current Programming and Monitoring Pin. An external resistance connected between PROG and GND, along with the current sense and PWM input resistors, programs the maximum charge current. The voltage on this pin can (See Datasheet)", 14 CSN (in) "Charge Current Sense Negative Input. Place an external input resistor (RIN, Figure 1) between this pin and the negative side of the charge current sense resistor. Operating voltage ranges from (BAT - 50mV) to (BAT + 200mV).", 15 CSP (in) "Charge Current Sense Positive Input. Place an external input resistor (RIN, Figure 1) between this pin and the positive side of the charge current sense resistor. Operating voltage ranges from (BAT - 50mV) to (BAT + 200mV).", 16 BGATE (out) "External Synchronous NFET Gate Control Output. This output provides gate drive to an external NMOS power transistor switch used for synchronous rectification to increase efficiency in the step-down DC/DC converter. Operating (See Datasheet)", 17 INTVDD (power) "Internal 5V Regulator Output. This pin provides a means of bypassing the internal 5V regulator used to power the LTC4009 PWM FET drivers. This supply shuts down when the LTC4009 shuts down. Refer to the Application (See Datasheet)", 18 SW "PWM Switch Node. The LTC4009 uses the voltage on this pin as the source reference for its topside NFET (PWM switch) driver. Refer to the Applications Information section for additional PCB layout suggestions related to this (See Datasheet)", 19 TGATE (out) "External NFET Switch Gate Control Output. This output provides gate drive to an external NMOS power transistor switch used in the DC/DC converter. Operating voltage range is GND to (CLN + 5V).", 20 BOOST "TGATE Driver Supply Input. A bootstrap capacitor is returned to this pin from a charge network connected to SW and INTVDD. Refer to the Applications Information section for complete details on circuit topology and component (See Datasheet)", 21 EP (power) "Ground. The package paddle provides a single-point ground for the internal voltage reference and other critical LTC4009 circuits. It must be soldered to a suitable PCB copper ground pad for proper electrical operation and to (See Datasheet)"

## LTC4009CUF-2#TRPBF
designator U?
High Efficiency, Multi-Chemistry Battery Charger, 6 to 28 V Vin, 20-pin QFN (UF-20), 0 to 85 degC, Pb-Free, Tape and Reel; Manufacturer: Linear Technology; PartNumber: LTC4009CUF-2#TRPBF; Battery Chemistry: Li-Ion, Li-Polymer; Charge Termination: Microcontroller; Float Voltage: 4.2 V; Max Charge Current(A): 8; Number of Cells: 1 to 4 (Li); Type of Charger: Switching; Vin Max(V): 28; Vin Min(V): 6; DatasheetVersion: Rev. D; PackageVersion: Rev. A, 10/2010; PackageReference: UF20; PackageDescription: 20-Pin Plastic QFN, Body 4 x 4 mm, Pitch 0.5 mm; Supplier 1: Digi-Key; Supplier Part Number 1: LTC4009CUF-2#TRPBF-ND; Supplier 2: Newark; Supplier Part Number 2: 31P7604; Packing: Tape and Reel; RoHS: TRUE; Mounting Technology: Surface Mount; Code_JEDEC: MO-220; ComponentLink1Description: Manufacturer URL; ComponentLink1URL: http://www.linear.com/; ComponentLink2Description: Datasheet; ComponentLink2URL: http://cds.linear.com/docs/en/datasheet/4009fd.pdf; ComponentLink3Description: Package Specification; ComponentLink3URL: http://cds.linear.com/docs/en/packaging/QFN_20_05-08-1710.pdf
footprint LT-UF-20_N (QFN, 20-Leads, Body 4.1x4.1mm, Pitch 0.5mm, Thermal Pad 2.45x2.45mm, IPC Medium Density)
footprint LT-UF-20_L (QFN, 20-Leads, Body 4.1x4.1mm, Pitch 0.5mm, Thermal Pad 2.45x2.45mm, IPC High Density)
footprint LT-UF-20_M (QFN, 20-Leads, Body 4.1x4.1mm, Pitch 0.5mm, Thermal Pad 2.45x2.45mm, IPC Low Density)
pins: 1 CLN (in) "Adapter Input Current Limit Negative Input. The LTC4009 senses voltage on this pin to determine if the charge current should be reduced to limit total input current. The threshold is set 100mV below the CLP pin. An external (See Datasheet)", 2 CLP (in) "Adapter Input Current Limit Positive Input. The LTC4009 also draws power from this pin, including a small amount for some shutdown functions. Operating voltage range is GND to 28V.", 3 DCIN (in) "DC Power Input. The LTC4009 draws power from this pin when an external DC power source is present. This pin is typically isolated from the CLP pin by a diode and should be bypassed with a capacitance of 0.1uF or more. (See Datasheet)", 4 ~{ICL} (oc) "Active-Low Input Current Limit Indicator Output. This open-drain output pulls to GND when the charge current is reduced because of AC adapter input current limiting. This output should be left floating if not used.", 5 DCDIV (in) "AC Adapter Present Comparator Input. The LTC4009 senses voltage on this pin to determine when an adequate DC power source is present, or if an overvoltage condition exists. An external resistor divider programs these (See Datasheet)", 6 ~{SHDN} (in) "Active-low Shutdown Input. Driving S\H\D\N\ below 300mV unconditionally forces the LTC4009 into the shutdown state. This input has a 50kohm internal pull-down to GND. Operating voltage range is GND to INTVDD.", 7 ~{ACP} (oc) "Active-Low AC Adapter Present Indicator Output. This open-drain output pulls to GND when adequate AC adapter (DC) voltage is present, based on the DCDIV input. This output should be left floating if not used.", 8 ~{CHRG} (hiz) "Active-Low Charge Indicator Output. This open-drain output provides three levels of information about charge status using a strong pull-down, 25uA weak pull-down or high impedance. Refer to the Operation and Applications (See Datasheet)", 9 FVS0 (in) "Battery Voltage Select Input (LSB). This pin is one of two pins used on the LTC4009-1 or LTC4009-2 to select one of four preset battery voltages. Selection is done by connecting to either GND or INTVDD. Operating voltage (See Datasheet)", 10 FVS1 (in) "Battery Voltage Select Input (MSB). This pin is one of two pins used on the LTC4009-1 or LTC4009-2 to select one of four preset battery voltages. Selection is done by connecting to either GND or INTVDD. Operating voltage (See Datasheet)", 11 BAT (power) "Battery Pack Connection. The LTC4009 uses the voltage on this pin to control PWM operation when charging. Operating voltage range is GND to CLN.", 12 ITH "PWM Control Voltage and Compensation Node. The LTC4009 develops a voltage on this pin to control cycle-by-cycle peak inductor current. An external R-C network connected to ITH provides PWM loop compensation. Refer to the (See Datasheet)", 13 PROG (in) "Charge Current Programming and Monitoring Pin. An external resistance connected between PROG and GND, along with the current sense and PWM input resistors, programs the maximum charge current. The voltage on this pin can (See Datasheet)", 14 CSN (in) "Charge Current Sense Negative Input. Place an external input resistor (RIN, Figure 1) between this pin and the negative side of the charge current sense resistor. Operating voltage ranges from (BAT - 50mV) to (BAT + 200mV).", 15 CSP (in) "Charge Current Sense Positive Input. Place an external input resistor (RIN, Figure 1) between this pin and the positive side of the charge current sense resistor. Operating voltage ranges from (BAT - 50mV) to (BAT + 200mV).", 16 BGATE (out) "External Synchronous NFET Gate Control Output. This output provides gate drive to an external NMOS power transistor switch used for synchronous rectification to increase efficiency in the step-down DC/DC converter. Operating (See Datasheet)", 17 INTVDD (power) "Internal 5V Regulator Output. This pin provides a means of bypassing the internal 5V regulator used to power the LTC4009 PWM FET drivers. This supply shuts down when the LTC4009 shuts down. Refer to the Application (See Datasheet)", 18 SW "PWM Switch Node. The LTC4009 uses the voltage on this pin as the source reference for its topside NFET (PWM switch) driver. Refer to the Applications Information section for additional PCB layout suggestions related to this (See Datasheet)", 19 TGATE (out) "External NFET Switch Gate Control Output. This output provides gate drive to an external NMOS power transistor switch used in the DC/DC converter. Operating voltage range is GND to (CLN + 5V).", 20 BOOST "TGATE Driver Supply Input. A bootstrap capacitor is returned to this pin from a charge network connected to SW and INTVDD. Refer to the Applications Information section for complete details on circuit topology and component (See Datasheet)", 21 EP (power) "Ground. The package paddle provides a single-point ground for the internal voltage reference and other critical LTC4009 circuits. It must be soldered to a suitable PCB copper ground pad for proper electrical operation and to (See Datasheet)"

## LTC4009IUF#PBF
designator U?
High Efficiency, Multi-Chemistry Battery Charger, 6 to 28 V Vin, 20-pin QFN (UF-20), -40 to 125 degC, Pb-Free; Manufacturer: Linear Technology; PartNumber: LTC4009IUF#PBF; Battery Chemistry: Li-Ion, Li-Polymer, NiCd, NiMH, LiFePO4, Lead Acid; Charge Termination: Microcontroller; Float Voltage: Adj; Max Charge Current(A): 8; Number of Cells: 1 to 6 (Li), 2 to 18 (Ni); Type of Charger: Switching; Vin Max(V): 28; Vin Min(V): 6; DatasheetVersion: Rev. D; PackageVersion: Rev. A, 10/2010; PackageReference: UF20; PackageDescription: 20-Pin Plastic QFN, Body 4 x 4 mm, Pitch 0.5 mm; Supplier 1: Digi-Key; Supplier Part Number 1: LTC4009IUF#PBF-ND; Supplier 2: Farnell; Supplier Part Number 2: 1799845; Supplier 3: Newark; Supplier Part Number 3: 71R4686; RoHS: TRUE; Mounting Technology: Surface Mount; Code_JEDEC: MO-220; ComponentLink1Description: Manufacturer URL; ComponentLink1URL: http://www.linear.com/; ComponentLink2Description: Datasheet; ComponentLink2URL: http://cds.linear.com/docs/en/datasheet/4009fd.pdf; ComponentLink3Description: Package Specification; ComponentLink3URL: http://cds.linear.com/docs/en/packaging/QFN_20_05-08-1710.pdf
footprint LT-UF-20_N (QFN, 20-Leads, Body 4.1x4.1mm, Pitch 0.5mm, Thermal Pad 2.45x2.45mm, IPC Medium Density)
footprint LT-UF-20_L (QFN, 20-Leads, Body 4.1x4.1mm, Pitch 0.5mm, Thermal Pad 2.45x2.45mm, IPC High Density)
footprint LT-UF-20_M (QFN, 20-Leads, Body 4.1x4.1mm, Pitch 0.5mm, Thermal Pad 2.45x2.45mm, IPC Low Density)
pins: 1 CLN (in) "Adapter Input Current Limit Negative Input. The LTC4009 senses voltage on this pin to determine if the charge current should be reduced to limit total input current. The threshold is set 100mV below the CLP pin. An external (See Datasheet)", 2 CLP (in) "Adapter Input Current Limit Positive Input. The LTC4009 also draws power from this pin, including a small amount for some shutdown functions. Operating voltage range is GND to 28V.", 3 DCIN (in) "DC Power Input. The LTC4009 draws power from this pin when an external DC power source is present. This pin is typically isolated from the CLP pin by a diode and should be bypassed with a capacitance of 0.1uF or more. (See Datasheet)", 4 ~{ICL} (oc) "Active-Low Input Current Limit Indicator Output. This open-drain output pulls to GND when the charge current is reduced because of AC adapter input current limiting. This output should be left floating if not used.", 5 DCDIV (in) "AC Adapter Present Comparator Input. The LTC4009 senses voltage on this pin to determine when an adequate DC power source is present, or if an overvoltage condition exists. An external resistor divider programs these (See Datasheet)", 6 ~{SHDN} (in) "Active-low Shutdown Input. Driving S\H\D\N\ below 300mV unconditionally forces the LTC4009 into the shutdown state. This input has a 50kohm internal pull-down to GND. Operating voltage range is GND to INTVDD.", 7 ~{ACP} (oc) "Active-Low AC Adapter Present Indicator Output. This open-drain output pulls to GND when adequate AC adapter (DC) voltage is present, based on the DCDIV input. This output should be left floating if not used.", 8 ~{CHRG} (hiz) "Active-Low Charge Indicator Output. This open-drain output provides three levels of information about charge status using a strong pull-down, 25uA weak pull-down or high impedance. Refer to the Operation and Applications (See Datasheet)", 9 FBDIV (oc) "Battery Voltage Feedback Resistor Divider Source. The LTC4009 connects this pin to BAT when charging is in progress. FBDIV is an open-drain PFET output to BAT with an operating voltage range of GND to BAT.", 10 VFB (in) "Battery Voltage Feedback Input. An external resistor divider between FBDIV and GND with the center tap connected to VFB programs the charger output voltage. In constant voltage mode, this pin is nominally at 1.2085V. Refer (See Datasheet)", 11 BAT (power) "Battery Pack Connection. The LTC4009 uses the voltage on this pin to control PWM operation when charging. Operating voltage range is GND to CLN.", 12 ITH "PWM Control Voltage and Compensation Node. The LTC4009 develops a voltage on this pin to control cycle-by-cycle peak inductor current. An external R-C network connected to ITH provides PWM loop compensation. Refer to the (See Datasheet)", 13 PROG (in) "Charge Current Programming and Monitoring Pin. An external resistance connected between PROG and GND, along with the current sense and PWM input resistors, programs the maximum charge current. The voltage on this pin can (See Datasheet)", 14 CSN (in) "Charge Current Sense Negative Input. Place an external input resistor (RIN, Figure 1) between this pin and the negative side of the charge current sense resistor. Operating voltage ranges from (BAT - 50mV) to (BAT + 200mV).", 15 CSP (in) "Charge Current Sense Positive Input. Place an external input resistor (RIN, Figure 1) between this pin and the positive side of the charge current sense resistor. Operating voltage ranges from (BAT - 50mV) to (BAT + 200mV).", 16 BGATE (out) "External Synchronous NFET Gate Control Output. This output provides gate drive to an external NMOS power transistor switch used for synchronous rectification to increase efficiency in the step-down DC/DC converter. Operating (See Datasheet)", 17 INTVDD (power) "Internal 5V Regulator Output. This pin provides a means of bypassing the internal 5V regulator used to power the LTC4009 PWM FET drivers. This supply shuts down when the LTC4009 shuts down. Refer to the Application (See Datasheet)", 18 SW "PWM Switch Node. The LTC4009 uses the voltage on this pin as the source reference for its topside NFET (PWM switch) driver. Refer to the Applications Information section for additional PCB layout suggestions related to this (See Datasheet)", 19 TGATE (out) "External NFET Switch Gate Control Output. This output provides gate drive to an external NMOS power transistor switch used in the DC/DC converter. Operating voltage range is GND to (CLN + 5V).", 20 BOOST "TGATE Driver Supply Input. A bootstrap capacitor is returned to this pin from a charge network connected to SW and INTVDD. Refer to the Applications Information section for complete details on circuit topology and component (See Datasheet)", 21 EP (power) "Ground. The package paddle provides a single-point ground for the internal voltage reference and other critical LTC4009 circuits. It must be soldered to a suitable PCB copper ground pad for proper electrical operation and to (See Datasheet)"